# EAGLE library part GENERIC-08 (library SaintGimp)
Not a real device, just used to build SMD adapter board
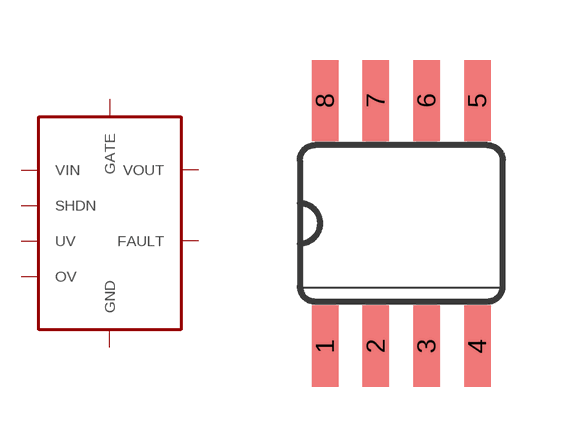
[diagram p8: symbol with the pads of SOIC-08; footprint SOIC-08]

Designator prefix IC

## GENERIC-08-SOIC  [SOIC-08]
1  VIN  pwr
2  UV  in
3  OV  in
4  GND  pas
5  SHDN  in
6  FAULT  out
7  VOUT  in
8  GATE  out

## Footprint SOIC-08 (pad centres in mm)
8-pin SOIC 150 mil
smd 0.66 x 2.032: 1 -1.905,-3.073; 2 -0.635,-3.073; 3 0.635,-3.073; 4 1.905,-3.073; 5 1.905,3.073; 6 0.635,3.073; 7 -0.635,3.073; 8 -1.905,3.073